# EAGLE library part UC3C (library Atmel_MCUs)
AT32UC3C0512C Schematic and Footprint
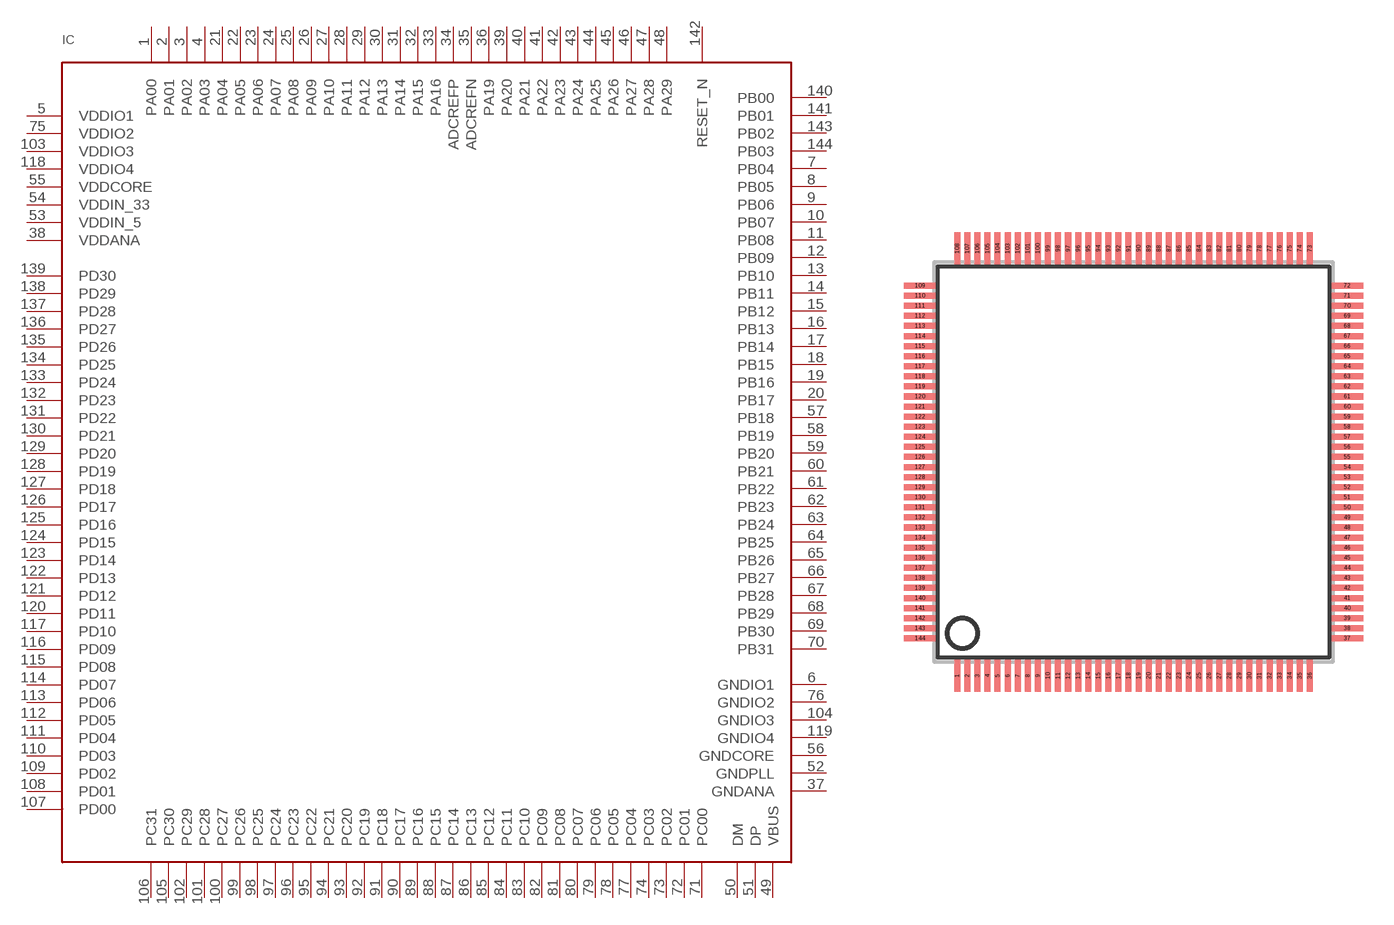
[diagram p0: symbol with the pads of TQFP144; footprint TQFP144]

Designator prefix IC

## UC3C  [TQFP144]
1  PA00
2  PA01
3  PA02
4  PA03
5  VDDIO1  pwr
6  GNDIO1  pwr
7  PB04
8  PB05
9  PB06
10  PB07
11  PB08
12  PB09
13  PB10
14  PB11
15  PB12
16  PB13
17  PB14
18  PB15
19  PB16
20  PB17
21  PA04
22  PA05
23  PA06
24  PA07
25  PA08
26  PA09
27  PA10
28  PA11
29  PA12
30  PA13
31  PA14
32  PA15
33  PA16
34  ADCREFP
35  ADCREFN
36  PA19
37  GNDANA  pwr
38  VDDANA  pwr
39  PA20
40  PA21
41  PA22
42  PA23
43  PA24
44  PA25
45  PA26
46  PA27
47  PA28
48  PA29
49  VBUS  pwr
50  DM
51  DP
52  GNDPLL  pwr
53  VDDIN_5  pwr
54  VDDIN_33  pwr
55  VDDCORE  pwr
56  GNDCORE  pwr
57  PB18
58  PB19
59  PB20
60  PB21
61  PB22
62  PB23
63  PB24
64  PB25
65  PB26
66  PB27
67  PB28
68  PB29
69  PB30
70  PB31
71  PC00
72  PC01
73  PC02
74  PC03
75  VDDIO2  pwr
76  GNDIO2  pwr
77  PC04
78  PC05
79  PC06
80  PC07
81  PC08
82  PC09
83  PC10
84  PC11
85  PC12
86  PC13
87  PC14
88  PC15
89  PC16
90  PC17
91  PC18
92  PC19
93  PC20
94  PC21
95  PC22
96  PC23
97  PC24
98  PC25
99  PC26
100  PC27
101  PC28
102  PC29
103  VDDIO3  pwr
104  GNDIO3  pwr
105  PC30
106  PC31
107  PD00
108  PD01
109  PD02
110  PD03
111  PD04
112  PD05
113  PD06
114  PD07
115  PD08
116  PD09
117  PD10
118  VDDIO4  pwr
119  GNDIO4  pwr
120  PD11
121  PD12
122  PD13
123  PD14
124  PD15
125  PD16
126  PD17
127  PD18
128  PD19
129  PD20
130  PD21
131  PD22
132  PD23
133  PD24
134  PD25
135  PD26
136  PD27
137  PD28
138  PD29
139  PD30
140  PB00
141  PB01
142  RESET_N  in
143  PB02
144  PB03

## Footprint TQFP144 (pad centres in mm)
QFP144 shrink quad flat pack, square (smd-ipc)
smd 0.3 x 1.6: 1 -8.75,-10.6; 2 -8.25,-10.6; 3 -7.75,-10.6; 4 -7.25,-10.6; 5 -6.75,-10.6; 6 -6.25,-10.6; 7 -5.75,-10.6; 8 -5.25,-10.6; 9 -4.75,-10.6; 10 -4.25,-10.6; 11 -3.75,-10.6; 12 -3.25,-10.6; 13 -2.75,-10.6; 14 -2.25,-10.6; 15 -1.75,-10.6; 16 -1.25,-10.6; 17 -0.75,-10.6; 18 -0.25,-10.6; 19 0.25,-10.6; 20 0.75,-10.6; 21 1.25,-10.6; 22 1.75,-10.6; 23 2.25,-10.6; 24 2.75,-10.6; 25 3.25,-10.6; 26 3.75,-10.6; 27 4.25,-10.6; 28 4.75,-10.6; 29 5.25,-10.6; 30 5.75,-10.6; 31 6.25,-10.6; 32 6.75,-10.6; 33 7.25,-10.6; 34 7.75,-10.6; 35 8.25,-10.6; 36 8.75,-10.6; 73 8.75,10.6; 74 8.25,10.6; 75 7.75,10.6; 76 7.25,10.6; 77 6.75,10.6; 78 6.25,10.6; 79 5.75,10.6; 80 5.25,10.6; 81 4.75,10.6; 82 4.25,10.6; 83 3.75,10.6; 84 3.25,10.6; 85 2.75,10.6; 86 2.25,10.6; 87 1.75,10.6; 88 1.25,10.6; 89 0.75,10.6; 90 0.25,10.6; 91 -0.25,10.6; 92 -0.75,10.6; 93 -1.25,10.6; 94 -1.75,10.6; 95 -2.25,10.6; 96 -2.75,10.6; 97 -3.25,10.6; 98 -3.75,10.6; 99 -4.25,10.6; 100 -4.75,10.6; 101 -5.25,10.6; 102 -5.75,10.6; 103 -6.25,10.6; 104 -6.75,10.6; 105 -7.25,10.6; 106 -7.75,10.6; 107 -8.25,10.6; 108 -8.75,10.6
smd 1.6 x 0.3: 37 10.6,-8.75; 38 10.6,-8.25; 39 10.6,-7.75; 40 10.6,-7.25; 41 10.6,-6.75; 42 10.6,-6.25; 43 10.6,-5.75; 44 10.6,-5.25; 45 10.6,-4.75; 46 10.6,-4.25; 47 10.6,-3.75; 48 10.6,-3.25; 49 10.6,-2.75; 50 10.6,-2.25; 51 10.6,-1.75; 52 10.6,-1.25; 53 10.6,-0.75; 54 10.6,-0.25; 55 10.6,0.25; 56 10.6,0.75; 57 10.6,1.25; 58 10.6,1.75; 59 10.6,2.25; 60 10.6,2.75; 61 10.6,3.25; 62 10.6,3.75; 63 10.6,4.25; 64 10.6,4.75; 65 10.6,5.25; 66 10.6,5.75; 67 10.6,6.25; 68 10.6,6.75; 69 10.6,7.25; 70 10.6,7.75; 71 10.6,8.25; 72 10.6,8.75; 109 -10.6,8.75; 110 -10.6,8.25; 111 -10.6,7.75; 112 -10.6,7.25; 113 -10.6,6.75; 114 -10.6,6.25; 115 -10.6,5.75; 116 -10.6,5.25; 117 -10.6,4.75; 118 -10.6,4.25; 119 -10.6,3.75; 120 -10.6,3.25; 121 -10.6,2.75; 122 -10.6,2.25; 123 -10.6,1.75; 124 -10.6,1.25; 125 -10.6,0.75; 126 -10.6,0.25; 127 -10.6,-0.25; 128 -10.6,-0.75; 129 -10.6,-1.25; 130 -10.6,-1.75; 131 -10.6,-2.25; 132 -10.6,-2.75; 133 -10.6,-3.25; 134 -10.6,-3.75; 135 -10.6,-4.25; 136 -10.6,-4.75; 137 -10.6,-5.25; 138 -10.6,-5.75; 139 -10.6,-6.25; 140 -10.6,-6.75; 141 -10.6,-7.25; 142 -10.6,-7.75; 143 -10.6,-8.25; 144 -10.6,-8.75